# Altium footprint library DIOM4427X270N.PcbLib: 1 footprints
Each footprint in its own frame and in the unit in brackets; x right, y up, seen from the top. Pads: shape width x height; smd on the part's side, far side on the other; paste and mask are expansions set on the pad; w line width, h text height; cw(c..) or ccw(c..) is an arc to the next point about the centre after c.
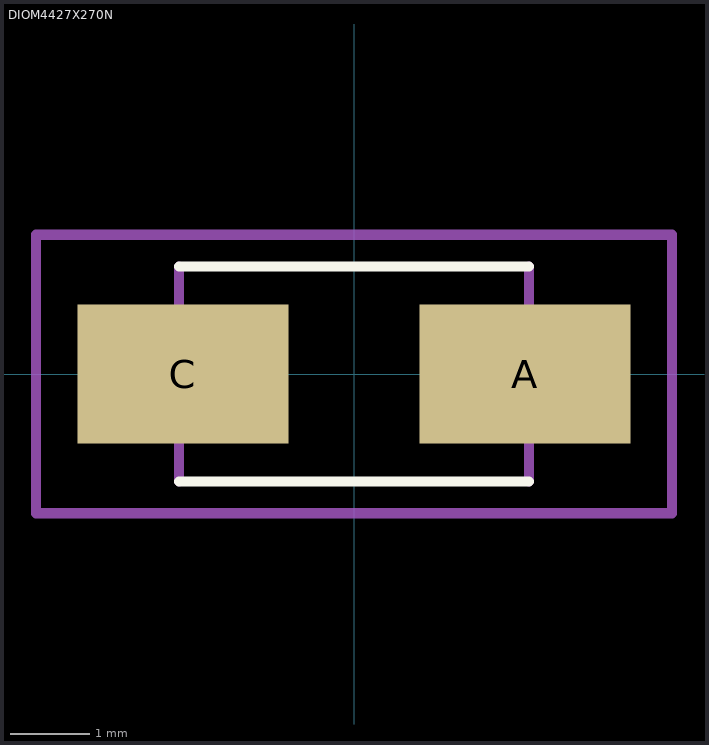
[diagram p0: the footprint, top view; thin cyan lines are the x and y axes]

## DIOM4427X270N [mm]
pads (2):
  rect 2.65x1.75 smd: A(2.15,0) C(-2.15,0)
Top Overlay:
  lines w0.127: -2.2,-1.35 2.2,-1.35 ; -2.2,1.35 2.2,1.35
Assembly Top:
  lines w0.127: -2.2,-1.35 -2.2,1.35 ; 2.2,-1.35 2.2,1.35
Courtyard Top:
  lines w0.127: -4,-1.75 4,-1.75 4,1.75 -4,1.75 -4,-1.75
3D body "step_temp.STEP": height 1.43, standoff 0, extent -1.8,-0.9 1.8,0.9